# EAGLE library part MSP430F5500_RGZ_48 (library ftdichip)
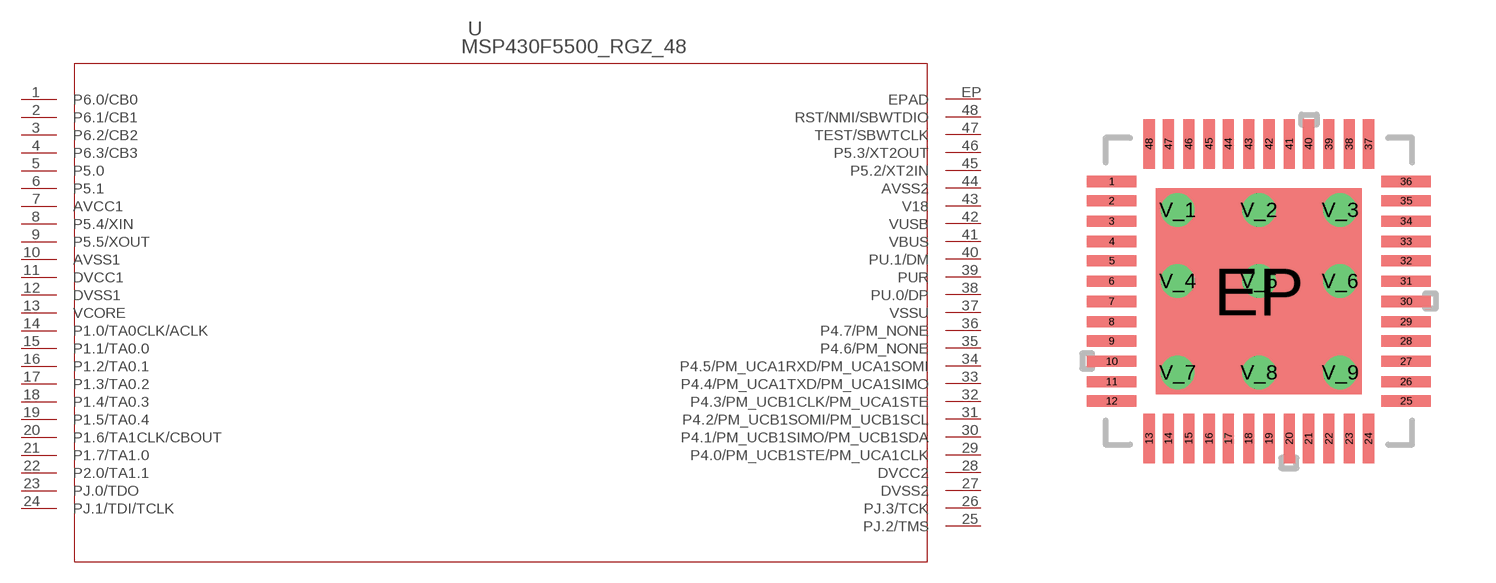
[diagram p5: symbol with the pads of RGZ48_5P15X5P15; footprint RGZ48_5P15X5P15]

Designator prefix U

## MSP430F5500_RGZ_48 (DATASHEETURL: http://www.ti.com/lit/gpn/MSP430F5500; DESCRIPTION: Mixed Signal Microcontroller; FAMILY_NAME: 5 Series; GENERIC_PART_NUMBER: MSP430F5500; INDUSTRY_STD_PKG_TYPE: VQFN; MANUFACTURER: Texas Instruments; MANUFACTURER_PART_NUMBER: msp430f5500_rgz_48; PACKAGE_DESIGNATOR: RGZ; PIN_COUNT: 48; VENDOR: Texas Instruments)  [RGZ48_5P15X5P15]
1  P6.0/CB0
2  P6.1/CB1
3  P6.2/CB2
4  P6.3/CB3
5  P5.0
6  P5.1
7  AVCC1  pwr
8  P5.4/XIN
9  P5.5/XOUT
10  AVSS1  pwr
11  DVCC1  pwr
12  DVSS1  pwr
13  VCORE  pwr
14  P1.0/TA0CLK/ACLK
15  P1.1/TA0.0
16  P1.2/TA0.1
17  P1.3/TA0.2
18  P1.4/TA0.3
19  P1.5/TA0.4
20  P1.6/TA1CLK/CBOUT
21  P1.7/TA1.0
22  P2.0/TA1.1
23  PJ.0/TDO
24  PJ.1/TDI/TCLK
25  PJ.2/TMS
26  PJ.3/TCK
27  DVSS2  pwr
28  DVCC2  pwr
29  P4.0/PM_UCB1STE/PM_UCA1CLK
30  P4.1/PM_UCB1SIMO/PM_UCB1SDA
31  P4.2/PM_UCB1SOMI/PM_UCB1SCL
32  P4.3/PM_UCB1CLK/PM_UCA1STE
33  P4.4/PM_UCA1TXD/PM_UCA1SIMO
34  P4.5/PM_UCA1RXD/PM_UCA1SOMI
35  P4.6/PM_NONE
36  P4.7/PM_NONE
37  VSSU  pwr
38  PU.0/DP
39  PUR
40  PU.1/DM
41  VBUS  pwr
42  VUSB  pwr
43  V18  pwr
44  AVSS2  pwr
45  P5.2/XT2IN
46  P5.3/XT2OUT
47  TEST/SBWTCLK
48  RST/NMI/SBWTDIO
EP  EPAD  pas

## Footprint RGZ48_5P15X5P15 (pad centres in mm)
smd 1.245 x 0.279: 1 -3.683,2.743; 2 -3.683,2.261; 3 -3.683,1.753; 4 -3.683,1.245; 5 -3.683,0.762; 6 -3.683,0.254; 7 -3.683,-0.254; 8 -3.683,-0.762; 9 -3.683,-1.245; 10 -3.683,-1.753; 11 -3.683,-2.261; 12 -3.683,-2.743; 25 3.683,-2.743; 26 3.683,-2.261; 27 3.683,-1.753; 28 3.683,-1.245; 29 3.683,-0.762; 30 3.683,-0.254; 31 3.683,0.254; 32 3.683,0.762; 33 3.683,1.245; 34 3.683,1.753; 35 3.683,2.261; 36 3.683,2.743
smd 0.279 x 1.245: 13 -2.743,-3.683; 14 -2.261,-3.683; 15 -1.753,-3.683; 16 -1.245,-3.683; 17 -0.762,-3.683; 18 -0.254,-3.683; 19 0.254,-3.683; 20 0.762,-3.683; 21 1.245,-3.683; 22 1.753,-3.683; 23 2.261,-3.683; 24 2.743,-3.683; 37 2.743,3.683; 38 2.261,3.683; 39 1.753,3.683; 40 1.245,3.683; 41 0.762,3.683; 42 0.254,3.683; 43 -0.254,3.683; 44 -0.762,3.683; 45 -1.245,3.683; 46 -1.753,3.683; 47 -2.261,3.683; 48 -2.743,3.683
smd 5.156 x 5.156: EP 0,0
drill 0.33: V_1 -2.032,2.032; V_2 0,2.032; V_3 2.032,2.032; V_4 -2.032,0.254; V_5 0,0.254; V_6 2.032,0.254; V_7 -2.032,-2.032; V_8 0,-2.032; V_9 2.032,-2.032